# Altium schematic symbol library DynamicComplexModulo_v1i1.SchLib: 58 symbols
Pins are listed as number, name and electrical type; pins without a type are passive.

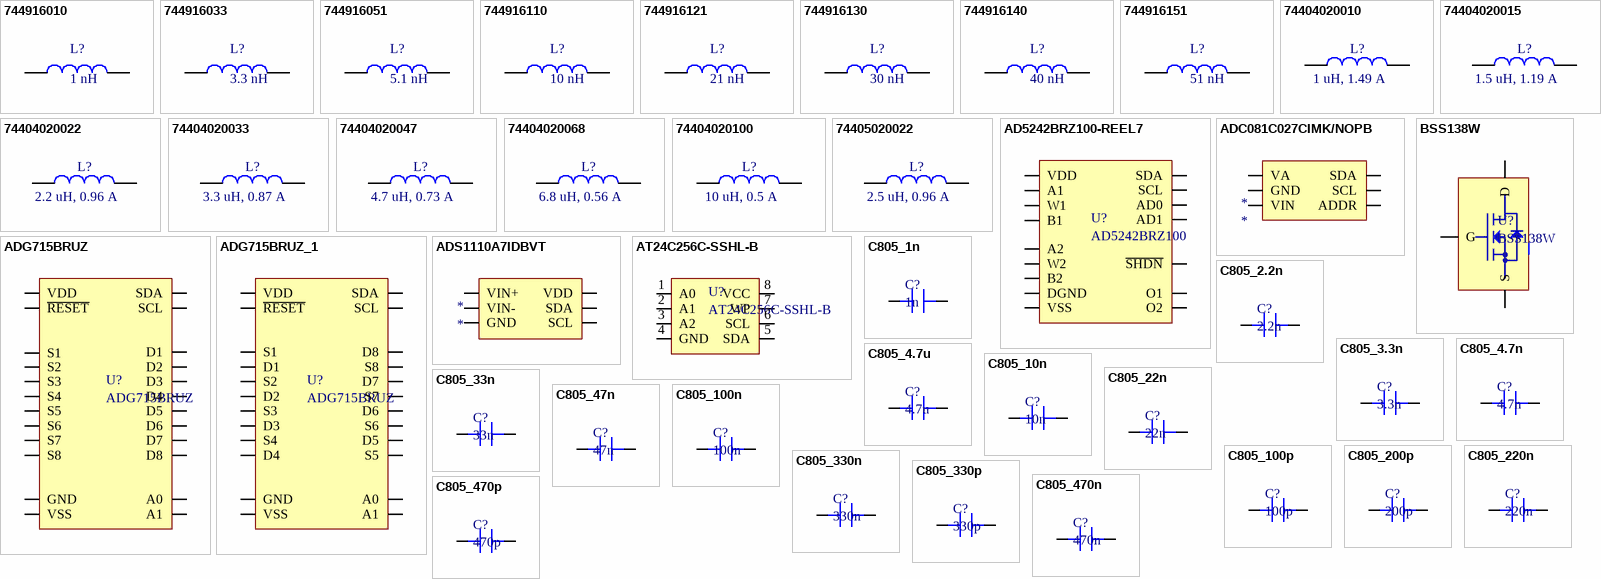
[diagram p0: symbols 744916010 to C805_470p]

## 744916010
designator L?, comment 1 nH
WE-KI HC SMD High Current Wire Wound Ceramic Inductor, size 0402, 1 nH; PartNumber: 744916010; Manufacturer: Wurth Electronics; PublishedDate: Nov. 2016; Publisher: Wurth Elektronik; ComponentLink1Description: Manufacturer; ComponentLink1URL: http://www.we-online.de; ComponentLink2Description: Datasheet; ComponentLink2URL: http://katalog.we-online.de/pbs/datasheet/744916010.pdf; Size: 0402; Value: 1 nH; Supplier 1: Digi-Key; Manufacturer Part Number: 744916010; Stock 1: 9995; Supplier Part Number 1: 732-11213-6-ND; Pricing 1: 1=0.72, 50=0.648, 100=0.6, 1000=0.552 (USD)
footprint WE-KI HC_0402 (SMD Inductor, size 0402)
pins: 1, 2

## 744916033
designator L?, comment 3.3 nH
WE-KI HC SMD High Current Wire Wound Ceramic Inductor, size 0402, 3.3 nH; PartNumber: 744916033; Manufacturer: Wurth Electronics; PublishedDate: Nov. 2016; Publisher: Wurth Elektronik; ComponentLink1Description: Manufacturer; ComponentLink1URL: http://www.we-online.de; ComponentLink2Description: Datasheet; ComponentLink2URL: http://katalog.we-online.de/pbs/datasheet/744916033.pdf; Size: 0402; Value: 3.3 nH; Supplier 1: Digi-Key; Manufacturer Part Number: 744916033; Stock 1: 10000; Supplier Part Number 1: 732-11217-6-ND; Pricing 1: 1=0.72, 50=0.648, 100=0.6, 1000=0.552 (USD)
footprint WE-KI HC_0402
pins: 1, 2

## 744916051
designator L?, comment 5.1 nH
WE-KI HC SMD High Current Wire Wound Ceramic Inductor, size 0402, 5.1 nH; PartNumber: 744916051; Manufacturer: Wurth Electronics; PublishedDate: Nov. 2016; Publisher: Wurth Elektronik; ComponentLink1Description: Manufacturer; ComponentLink1URL: http://www.we-online.de; ComponentLink2Description: Datasheet; ComponentLink2URL: http://katalog.we-online.de/pbs/datasheet/744916051.pdf; Size: 0402; Value: 5.1 nH; Supplier 1: Digi-Key; Manufacturer Part Number: 744916051; Stock 1: 10000; Supplier Part Number 1: 732-11222-6-ND; Pricing 1: 1=0.72, 50=0.648, 100=0.6, 1000=0.552 (USD)
footprint WE-KI HC_0402
pins: 1, 2

## 744916110
designator L?, comment 10 nH
WE-KI HC SMD High Current Wire Wound Ceramic Inductor, size 0402, 10 nH; PartNumber: 744916110; Manufacturer: Wurth Electronics; PublishedDate: Nov. 2016; Publisher: Wurth Elektronik; ComponentLink1Description: Manufacturer; ComponentLink1URL: http://www.we-online.de; ComponentLink2Description: Datasheet; ComponentLink2URL: http://katalog.we-online.de/pbs/datasheet/744916110.pdf; Size: 0402; Value: 10 nH; Supplier 1: Digi-Key; Manufacturer Part Number: 744916110; Stock 1: 9990; Supplier Part Number 1: 732-11230-6-ND; Pricing 1: 1=0.72, 50=0.648, 100=0.6, 1000=0.552 (USD)
footprint WE-KI HC_0402
pins: 1, 2

## 744916121
designator L?, comment 21 nH
WE-KI HC SMD High Current Wire Wound Ceramic Inductor, size 0402, 21 nH; PartNumber: 744916121; Manufacturer: Wurth Electronics; PublishedDate: Nov. 2016; Publisher: Wurth Elektronik; ComponentLink1Description: Manufacturer; ComponentLink1URL: http://www.we-online.de; ComponentLink2Description: Datasheet; ComponentLink2URL: http://katalog.we-online.de/pbs/datasheet/744916121.pdf; Size: 0402; Value: 21 nH; Supplier 1: Digi-Key; Manufacturer Part Number: 744916121; Stock 1: 9990; Supplier Part Number 1: 732-11238-6-ND; Pricing 1: 1=0.72, 50=0.648, 100=0.6, 1000=0.552 (USD)
footprint WE-KI HC_0402
pins: 1, 2

## 744916130
designator L?, comment 30 nH
WE-KI HC SMD High Current Wire Wound Ceramic Inductor, size 0402, 30 nH; PartNumber: 744916130; Manufacturer: Wurth Electronics; PublishedDate: Nov. 2016; Publisher: Wurth Elektronik; ComponentLink1Description: Manufacturer; ComponentLink1URL: http://www.we-online.de; ComponentLink2Description: Datasheet; ComponentLink2URL: http://katalog.we-online.de/pbs/datasheet/744916130.pdf; Size: 0402; Value: 30 nH; Supplier 1: Digi-Key; Manufacturer Part Number: 744916130; Stock 1: 9500; Supplier Part Number 1: 732-11245-6-ND; Pricing 1: 1=0.72, 50=0.648, 100=0.6, 1000=0.552 (USD)
footprint WE-KI HC_0402
pins: 1, 2

## 744916140
designator L?, comment 40 nH
WE-KI HC SMD High Current Wire Wound Ceramic Inductor, size 0402, 40 nH; PartNumber: 744916140; Manufacturer: Wurth Electronics; PublishedDate: Nov. 2016; Publisher: Wurth Elektronik; ComponentLink1Description: Manufacturer; ComponentLink1URL: http://www.we-online.de; ComponentLink2Description: Datasheet; ComponentLink2URL: http://katalog.we-online.de/pbs/datasheet/744916140.pdf; Size: 0402; Value: 40 nH; Supplier 1: Digi-Key; Manufacturer Part Number: 744916140; Stock 1: 9960; Supplier Part Number 1: 732-11250-6-ND; Pricing 1: 1=0.72, 50=0.648, 100=0.6, 1000=0.552 (USD)
footprint WE-KI HC_0402
pins: 1, 2

## 744916151
designator L?, comment 51 nH
WE-KI HC SMD High Current Wire Wound Ceramic Inductor, size 0402, 51 nH; PartNumber: 744916151; Manufacturer: Wurth Electronics; PublishedDate: Nov. 2016; Publisher: Wurth Elektronik; ComponentLink1Description: Manufacturer; ComponentLink1URL: http://www.we-online.de; ComponentLink2Description: Datasheet; ComponentLink2URL: http://katalog.we-online.de/pbs/datasheet/744916151.pdf; Size: 0402; Value: 51 nH; Supplier 1: Digi-Key; Manufacturer Part Number: 744916151; Stock 1: 9980; Supplier Part Number 1: 732-11253-6-ND; Pricing 1: 1=0.72, 50=0.648, 100=0.6, 1000=0.552 (USD)
footprint WE-KI HC_0402
pins: 1, 2

## 74404020010
designator L?, comment 1 uH, 1.49 A
WE-LQS SMD Power Inductor, size 2010, 1 uH, 1.49 A; Part Number: 74404020010; Manufacturer: Wurth Electronics; Rated Current max.: 1.49 A; Inductance: 1 uH; DC Resistance: 0.095 Ohm; ComponentLink1Description: Manufacturer; ComponentLink1URL: http://www.we-online.de; ComponentLink2Description: Datasheet; ComponentLink2URL: http://katalog.we-online.de/pbs/datasheet/74404020010.pdf; Published Date: Dec. 2017; Publisher: Wurth Elektronik; Size: 2010; Operating Temperature: -40 to +125 degC; Supplier 1: Digi-Key; Manufacturer Part Number: 74404020010; Stock 1: 3959; Supplier Part Number 1: 732-10739-6-ND; Pricing 1: 1=0.56, 50=0.4698, 100=0.357, 1000=0.31007 (USD)
footprint WE-LQS_2010 (SMD Power Inductor, 2-Leads, body 2.2x1.8mm)
pins: 1, 2

## 74404020015
designator L?, comment 1.5 uH, 1.19 A
WE-LQS SMD Power Inductor, size 2010, 1.5 uH, 1.19 A; Part Number: 74404020015; Manufacturer: Wurth Electronics; Rated Current max.: 1.19 A; Inductance: 1.5 uH; DC Resistance: 0.145 Ohm; ComponentLink1Description: Manufacturer; ComponentLink1URL: http://www.we-online.de; ComponentLink2Description: Datasheet; ComponentLink2URL: http://katalog.we-online.de/pbs/datasheet/74404020015.pdf; Published Date: Dec. 2017; Publisher: Wurth Elektronik; Size: 2010; Operating Temperature: -40 to +125 degC; Supplier 1: Digi-Key; Manufacturer Part Number: 74404020015; Stock 1: 3931; Supplier Part Number 1: 732-10740-6-ND; Pricing 1: 1=0.56, 50=0.4698, 100=0.357, 1000=0.31007 (USD)
footprint WE-LQS_2010 (SMD Power Inductor, 2-Leads, body 2.2x1.8mm)
pins: 1, 2

## 74404020022
designator L?, comment 2.2 uH, 0.96 A
WE-LQS SMD Power Inductor, size 2010, 2.2 uH, 0.96 A; Part Number: 74404020022; Manufacturer: Wurth Electronics; Rated Current max.: 0.96 A; Inductance: 2.2 uH; DC Resistance: 0.22 Ohm; ComponentLink1Description: Manufacturer; ComponentLink1URL: http://www.we-online.de; ComponentLink2Description: Datasheet; ComponentLink2URL: http://katalog.we-online.de/pbs/datasheet/74404020022.pdf; Published Date: Dec. 2017; Publisher: Wurth Elektronik; Size: 2010; Operating Temperature: -40 to +125 degC; Supplier 1: Digi-Key; Manufacturer Part Number: 74404020022; Stock 1: 3236; Supplier Part Number 1: 732-10741-6-ND; Pricing 1: 1=0.56, 50=0.4698, 100=0.357, 1000=0.31007 (USD)
footprint WE-LQS_2010 (SMD Power Inductor, 2-Leads, body 2.2x1.8mm)
pins: 1, 2

## 74404020033
designator L?, comment 3.3 uH, 0.87 A
WE-LQS SMD Power Inductor, size 2010, 3.3 uH, 0.87 A; Part Number: 74404020033; Manufacturer: Wurth Electronics; Rated Current max.: 0.87 A; Inductance: 3.3 uH; DC Resistance: 0.279 Ohm; ComponentLink1Description: Manufacturer; ComponentLink1URL: http://www.we-online.de; ComponentLink2Description: Datasheet; ComponentLink2URL: http://katalog.we-online.de/pbs/datasheet/74404020033.pdf; Published Date: Dec. 2017; Publisher: Wurth Elektronik; Size: 2010; Operating Temperature: -40 to +125 degC; Supplier 1: Digi-Key; Manufacturer Part Number: 74404020033; Stock 1: 3787; Supplier Part Number 1: 732-10742-6-ND; Pricing 1: 1=0.56, 50=0.4698, 100=0.357, 1000=0.31007 (USD)
footprint WE-LQS_2010 (SMD Power Inductor, 2-Leads, body 2.2x1.8mm)
pins: 1, 2

## 74404020047
designator L?, comment 4.7 uH, 0.73 A
WE-LQS SMD Power Inductor, size 2010, 4.7 uH, 0.73 A; Part Number: 74404020047; Manufacturer: Wurth Electronics; Rated Current max.: 0.73 A; Inductance: 4.7 uH; DC Resistance: 0.399 Ohm; ComponentLink1Description: Manufacturer; ComponentLink1URL: http://www.we-online.de; ComponentLink2Description: Datasheet; ComponentLink2URL: http://katalog.we-online.de/pbs/datasheet/74404020047.pdf; Published Date: Dec. 2017; Publisher: Wurth Elektronik; Size: 2010; Operating Temperature: -40 to +125 degC; Supplier 1: Digi-Key; Manufacturer Part Number: 74404020047; Stock 1: 3398; Supplier Part Number 1: 732-10743-6-ND; Pricing 1: 1=0.56, 50=0.4698, 100=0.357, 1000=0.31007 (USD)
footprint WE-LQS_2010 (SMD Power Inductor, 2-Leads, body 2.2x1.8mm)
pins: 1, 2

## 74404020068
designator L?, comment 6.8 uH, 0.56 A
WE-LQS SMD Power Inductor, size 2010, 6.8 uH, 0.56 A; Part Number: 74404020068; Manufacturer: Wurth Electronics; Rated Current max.: 0.56 A; Inductance: 6.8 uH; DC Resistance: 0.68 Ohm; ComponentLink1Description: Manufacturer; ComponentLink1URL: http://www.we-online.de; ComponentLink2Description: Datasheet; ComponentLink2URL: http://katalog.we-online.de/pbs/datasheet/74404020068.pdf; Published Date: Dec. 2017; Publisher: Wurth Elektronik; Size: 2010; Operating Temperature: -40 to +125 degC; Supplier 1: Digi-Key; Manufacturer Part Number: 74404020068; Stock 1: 3558; Supplier Part Number 1: 732-10744-6-ND; Pricing 1: 1=0.56, 50=0.4698, 100=0.357, 1000=0.31007 (USD)
footprint WE-LQS_2010 (SMD Power Inductor, 2-Leads, body 2.2x1.8mm)
pins: 1, 2

## 74404020100
designator L?, comment 10 uH, 0.5 A
WE-LQS SMD Power Inductor, size 2010, 10 uH, 0.5 A; Part Number: 74404020100; Manufacturer: Wurth Electronics; Rated Current max.: 0.5 A; Inductance: 10 uH; DC Resistance: 0.85 Ohm; ComponentLink1Description: Manufacturer; ComponentLink1URL: http://www.we-online.de; ComponentLink2Description: Datasheet; ComponentLink2URL: http://katalog.we-online.de/pbs/datasheet/74404020100.pdf; Published Date: Dec. 2017; Publisher: Wurth Elektronik; Size: 2010; Operating Temperature: -40 to +125 degC; Supplier 1: Digi-Key; Manufacturer Part Number: 74404020100; Stock 1: 3185; ComponentLink3URL: http://www.farnell.com/datasheets/2277209.pdf; ComponentLink3Description: http://www.farnell.com/datasheets/2277209.pdf; Supplier Part Number 1: 732-10745-6-ND; Pricing 1: 1=0.56, 50=0.4698, 100=0.357, 1000=0.31007 (USD)
footprint WE-LQS_2010 (SMD Power Inductor, 2-Leads, body 2.2x1.8mm)
pins: 1, 2

## 74405020022
designator L?, comment 2.5 uH, 0.96 A
WE-LQS SMD Power Inductor, size 2010, 2.5 uH, 0.96 A; Part Number: 74404020022; Manufacturer: Wurth Electronics; Rated Current max.: 0.96 A; Inductance: 2.2 uH; DC Resistance: 0.22 Ohm; ComponentLink1Description: Manufacturer; ComponentLink1URL: http://www.we-online.de; ComponentLink2Description: Datasheet; ComponentLink2URL: http://katalog.we-online.de/pbs/datasheet/74404020022.pdf; Published Date: Dec. 2017; Publisher: Wurth Elektronik; Size: 2010; Operating Temperature: -40 to +125 degC; Manufacturer Part Number: 74404020022; Supplier 1: Digi-Key; Stock 1: 4000; Supplier Part Number 1: 732-10770-6-ND; Pricing 1: 1=0.63, 50=0.522, 100=0.3967, 1000=0.34451 (USD)
footprint WE-LQS_2010 (SMD Power Inductor, 2-Leads, body 2.2x1.8mm)
pins: 1, 2

## AD5242BRZ100-REEL7
designator U?, comment AD5242BRZ100
IC POT DGTL DUAL 256POS 16SOIC; Manufacturer: Analog Devices; Manufacturer Part Number: AD5242BRZ100-REEL7; Resistance: 100kR; Interface: I2C; Max Supply Voltage: 5.5V; Min Supply Voltage: 2.7V; Min Dual Supply Voltage: 2.3V; Tolerance: 50%; Nominal Supply Current: 100nA; Dual Supply Voltage: 2.5V; Number of Circuits: 2; Number of Taps: 256; Memory Type: Volatile; Temperature Coefficient: 30ppm/°C; Frequency: 400kHz; -3db Bandwidth: 650kHz; Supplier 1: Digi-Key; Stock 1: 881; Mount: Surface Mount; Case/Package: SOIC; Number of Pins: 16; Contact Plating: Tin,Matte; Min Operating Temperature: -40°C; Max Operating Temperature: 105°C; Packaging: Tape and Reel; Max Dual Supply Voltage: 2.7V; Package Quantity: 1000; Taper: Linear; Operating Supply Current: 100nA; Number of Positions: 256; Number of Elements: 2; Max Supply Current: 100nA; Quiescent Current: 100nA; Lead Free: Contains Lead; ComponentLink1URL: https://datasheet.ciiva.com/3046/ad5241-5242-3046354.pdf; ComponentLink1Description: https://datasheet.ciiva.com/3046/ad5241-5242-3046354.pdf; ComponentLink2URL: https://datasheet.ciiva.com/1339/ad5241-5242-1339036.pdf; ComponentLink2Description: https://datasheet.ciiva.com/1339/ad5241-5242-1339036.pdf
footprint AD5242BRZ100
pins: 1 O1, 2 A1, 3 W1, 4 B1, 5 VDD, 6 ~{SHDN}, 7 SCL, 8 SDA, 9 AD0, 10 AD1, 11 DGND, 12 VSS, 13 O2, 14 B2, 15 W2, 16 A2

## ADC081C027CIMK/NOPB
designator *
TEXAS INSTRUMENTS         ADC081C027CIMK/NOPB             Analogue to Digital Converter, SAR, 8 bit, 188.9 kSPS, Single, 2.7 V, 5.5 V, TSOT-23; Manufacturer: TI National Semiconductor; Interface: I2C; Number of Channels: 1; Min Supply Voltage: 2.7V; Max Supply Voltage: 5.5V; Number of Bits: 8; Sampling Rate: 188.9KS/s; Resolution: 8b; Polarity: Unipolar; Integral Nonlinearity (INL): 0.25LSB; Signal to Noise Ratio (SNR): 49.8dB; Nominal Supply Current: 740uA; Full Scale Error: 0.4LSB; Operating Supply Voltage: 5V; Supplier 1: Digi-Key; Manufacturer Part Number: ADC081C027CIMK/NOPB; Stock 1: 17186; Mount: Surface Mount; Case/Package: TSOT; Number of Pins: 6; Contact Plating: Tin; Min Operating Temperature: -40°C; Max Operating Temperature: 105°C; Packaging: Tape and Reel; Package Quantity: 1000; Number of Converters: 1; Number of Elements: 1; Number of Analog Inputs: 1; Number of A/D Converters: 1; Termination: SMD/SMT; Conversion Rate: 188.9KS/s; Supply Type: Single; Differential Nonlinearity: 0.25LSB; Number of Inputs: 1; Radiation Hardening: No; REACH SVHC: No SVHC; Lead Free: Lead Free; ComponentLink1URL: https://datasheet.ciiva.com/3038/adc081c027-3038628.pdf; ComponentLink1Description: https://datasheet.ciiva.com/3038/adc081c027-3038628.pdf; ComponentLink2URL: https://datasheet.ciiva.com/3038/adc081c027-3038629.pdf; ComponentLink2Description: https://datasheet.ciiva.com/3038/adc081c027-3038629.pdf; ComponentLink3URL: https://datasheet.ciiva.com/6659/adc081c021-6659189.pdf; ComponentLink3Description: https://datasheet.ciiva.com/6659/adc081c021-6659189.pdf; ComponentLink4URL: https://datasheet.ciiva.com/7988/1859389-7988887.pdf; ComponentLink4Description: https://datasheet.ciiva.com/7988/1859389-7988887.pdf; ComponentLink5URL: https://datasheet.ciiva.com/6659/adc081c021-6659192.pdf; ComponentLink5Description: https://datasheet.ciiva.com/6659/adc081c021-6659192.pdf; ComponentLink6URL: https://datasheet.ciiva.com/15147/getdatasheetpartid-159036-15147835.pdf; ComponentLink6Description: https://datasheet.ciiva.com/15147/getdatasheetpartid-159036-15147835.pdf; ComponentLink7URL: https://datasheet.ciiva.com/6659/adc081c021-6659196.pdf; ComponentLink7Description: https://datasheet.ciiva.com/6659/adc081c021-6659196.pdf; Supplier Part Number 1: ADC081C027CIMK/NOPBDKR-ND; Pricing 1: 1=1.53, 10=1.37, 100=1.1013, 500=0.90486 (USD)
footprint SOT23-6
pins: 1 VA, 2 GND, 3 VIN, 4 ADDR, 5 SCL, 6 SDA

## ADG715BRUZ
designator U?
ANALOG DEVICES         ADG715BRUZ            Analogue Switch, Octal Channel, SPST, 8 Channels, 4.5 ohm, 2.7V to 5.5V, TSSOP, 24 Pins; Number of Channels: 8; Bandwidth: 155MHz; Drain to Source Resistance: 2.5R; Nominal Supply Current: 20uA; Max Power Dissipation: 125uW; Interface: Serial; Dual Supply Voltage: 2.5V; On-State Resistance: 4.5R; Turn-On Delay Time: 140ns; Turn-Off Delay Time: 130ns; Operating Supply Current: 10uA; High Level Output Current: 30mA; Supply Type: Single,Dual; Max Dual Supply Voltage: 2.75V; Min Dual Supply Voltage: 2.25V; Supplier 1: Digi-Key; Manufacturer: Analog Devices; Manufacturer Part Number: ADG715BRUZ; Stock 1: 3027; Case/Package: TSSOP; Number of Pins: 24; Contact Plating: Tin,Matte; Min Operating Temperature: -40°C; Max Operating Temperature: 85°C; Throw Configuration: SPST; Number of Bits: 8; Min Supply Voltage: 2.7V; Max Supply Voltage: 5.5V; Number of Inputs: 8; Number of Outputs: 8; Package Quantity: 62; Packaging: Rail/Tube; Number of Circuits: 8; -3db Bandwidth: 155MHz; Max Supply Current: 20uA; Power Dissipation: 125uW; Length: 7.8mm; Height: 1.05mm; Width: 4.4mm; Radiation Hardening: No; REACH SVHC: No SVHC; Lead Free: Contains Lead; ComponentLink1URL: https://datasheet.ciiva.com/2978/adg714-715-2978656.pdf; ComponentLink1Description: https://datasheet.ciiva.com/2978/adg714-715-2978656.pdf; ComponentLink2URL: https://datasheet.ciiva.com/1668/adg714-715-1668978.pdf; ComponentLink2Description: https://datasheet.ciiva.com/1668/adg714-715-1668978.pdf; ComponentLink3URL: https://datasheet.ciiva.com/15127/getdatasheetpartid-123058-15127194.pdf; ComponentLink3Description: https://datasheet.ciiva.com/15127/getdatasheetpartid-123058-15127194.pdf; ComponentLink4URL: https://datasheet.ciiva.com/16637/adg714-715-16637994.pdf; ComponentLink4Description: https://datasheet.ciiva.com/16637/adg714-715-16637994.pdf; ComponentLink5URL: https://datasheet.ciiva.com/5797/adg714-715-5797179.pdf; ComponentLink5Description: https://datasheet.ciiva.com/5797/adg714-715-5797179.pdf; ComponentLink6URL: https://datasheet.ciiva.com/48708/001248020-da-01-en-ic-switch-octal-adg715bruz-tssop-24-adi-48708535.pdf; ComponentLink6Description: https://datasheet.ciiva.com/48708/001248020-da-01-en-ic-switch-octal-adg715bruz-tssop-24-adi-48708535.pdf; Supplier Part Number 1: ADG715BRUZ-ND; Pricing 1: 1=6.12, 62=5.19758, 124=4.50452, 558=3.83461, 1054=3.234 (USD)
footprint ADG715BRUZ
pins: 1 SCL, 2 VDD, 3 SDA, 4 GND, 5 S1, 6 D1, 7 S2, 8 D2, 9 S3, 10 D3, 11 S4, 12 D4, 13 D5, 14 S5, 15 D6, 16 S6, 17 D7, 18 S7, 19 D8, 20 S8, 21 VSS, 22 A1, 23 ~{RESET}, 24 A0

## ADG715BRUZ_1
designator U?, comment ADG715BRUZ
ANALOG DEVICES         ADG715BRUZ            Analogue Switch, Octal Channel, SPST, 8 Channels, 4.5 ohm, 2.7V to 5.5V, TSSOP, 24 Pins; Number of Channels: 8; Bandwidth: 155MHz; Drain to Source Resistance: 2.5R; Nominal Supply Current: 20uA; Max Power Dissipation: 125uW; Interface: Serial; Dual Supply Voltage: 2.5V; On-State Resistance: 4.5R; Turn-On Delay Time: 140ns; Turn-Off Delay Time: 130ns; Operating Supply Current: 10uA; High Level Output Current: 30mA; Supply Type: Single,Dual; Max Dual Supply Voltage: 2.75V; Min Dual Supply Voltage: 2.25V; Supplier 1: Digi-Key; Manufacturer: Analog Devices; Manufacturer Part Number: ADG715BRUZ; Stock 1: 3027; Case/Package: TSSOP; Number of Pins: 24; Contact Plating: Tin,Matte; Min Operating Temperature: -40°C; Max Operating Temperature: 85°C; Throw Configuration: SPST; Number of Bits: 8; Min Supply Voltage: 2.7V; Max Supply Voltage: 5.5V; Number of Inputs: 8; Number of Outputs: 8; Package Quantity: 62; Packaging: Rail/Tube; Number of Circuits: 8; -3db Bandwidth: 155MHz; Max Supply Current: 20uA; Power Dissipation: 125uW; Length: 7.8mm; Height: 1.05mm; Width: 4.4mm; Radiation Hardening: No; REACH SVHC: No SVHC; Lead Free: Contains Lead; ComponentLink1URL: https://datasheet.ciiva.com/2978/adg714-715-2978656.pdf; ComponentLink1Description: https://datasheet.ciiva.com/2978/adg714-715-2978656.pdf; ComponentLink2URL: https://datasheet.ciiva.com/1668/adg714-715-1668978.pdf; ComponentLink2Description: https://datasheet.ciiva.com/1668/adg714-715-1668978.pdf; ComponentLink3URL: https://datasheet.ciiva.com/15127/getdatasheetpartid-123058-15127194.pdf; ComponentLink3Description: https://datasheet.ciiva.com/15127/getdatasheetpartid-123058-15127194.pdf; ComponentLink4URL: https://datasheet.ciiva.com/16637/adg714-715-16637994.pdf; ComponentLink4Description: https://datasheet.ciiva.com/16637/adg714-715-16637994.pdf; ComponentLink5URL: https://datasheet.ciiva.com/5797/adg714-715-5797179.pdf; ComponentLink5Description: https://datasheet.ciiva.com/5797/adg714-715-5797179.pdf; ComponentLink6URL: https://datasheet.ciiva.com/48708/001248020-da-01-en-ic-switch-octal-adg715bruz-tssop-24-adi-48708535.pdf; ComponentLink6Description: https://datasheet.ciiva.com/48708/001248020-da-01-en-ic-switch-octal-adg715bruz-tssop-24-adi-48708535.pdf; Supplier Part Number 1: ADG715BRUZ-ND; Pricing 1: 1=6.12, 62=5.19758, 124=4.50452, 558=3.83461, 1054=3.234 (USD)
footprint ADG715BRUZ
pins: 1 SCL, 2 VDD, 3 SDA, 4 GND, 5 S1, 6 D1, 7 S2, 8 D2, 9 S3, 10 D3, 11 S4, 12 D4, 13 D5, 14 S5, 15 D6, 16 S6, 17 D7, 18 S7, 19 D8, 20 S8, 21 VSS, 22 A1, 23 ~{RESET}, 24 A0

## ADS1110A7IDBVT
designator *
IC ADC 16-BIT I2C PROGBL SOT23-6; Manufacturer: Texas Instruments; Manufacturer Part Number: ADS1110A7IDBVT; Number of Channels: 1; Max Power Dissipation: 1.75mW; Operating Supply Voltage: 5V; Min Supply Voltage: 2.7V; Max Supply Voltage: 5.5V; Resolution: 16b; Number of Bits: 16; Sampling Rate: 0.128KS/s; Polarity: Bipolar,Unipolar; Supply Type: Single; Conversion Rate: 128S/s; Nominal Supply Current: 240uA; Differential Nonlinearity: 1LSB; Supplier 1: Digi-Key; Stock 1: 469; Mount: Surface Mount; Case/Package: SOT-23-6; Number of Pins: 6; Contact Plating: Gold; Min Operating Temperature: -40°C; Max Operating Temperature: 125°C; Interface: I2C; Package Quantity: 250; Packaging: Tape and Reel; Number of Converters: 1; Number of Elements: 1; Power Dissipation: 1.75mW; Number of A/D Converters: 1; Number of Analog Inputs: 1; Number of Inputs: 1; Radiation Hardening: No; Lead Free: Lead Free; ComponentLink1URL: https://datasheet.ciiva.com/25993/ads1110-25993414.pdf; ComponentLink1Description: https://datasheet.ciiva.com/25993/ads1110-25993414.pdf; ComponentLink2URL: https://datasheet.ciiva.com/1262/ads1110-1262313.pdf; ComponentLink2Description: https://datasheet.ciiva.com/1262/ads1110-1262313.pdf; ComponentLink3URL: https://datasheet.ciiva.com/1262/ads1110-1262314.pdf; ComponentLink3Description: https://datasheet.ciiva.com/1262/ads1110-1262314.pdf; ComponentLink4URL: https://datasheet.ciiva.com/1262/ads1110-1262315.pdf; ComponentLink4Description: https://datasheet.ciiva.com/1262/ads1110-1262315.pdf; ComponentLink5URL: https://datasheet.ciiva.com/14260/sbas276a-14260046.pdf; ComponentLink5Description: https://datasheet.ciiva.com/14260/sbas276a-14260046.pdf; ComponentLink6URL: https://datasheet.ciiva.com/26800/ads1110a7idbvt-26800806.pdf; ComponentLink6Description: https://datasheet.ciiva.com/26800/ads1110a7idbvt-26800806.pdf; ComponentLink7URL: https://datasheet.ciiva.com/41461/001186690-da-01-en-ic-adc-16-bi-ads1110a7idbvt-sot-23-6-tid-41461014.pdf; ComponentLink7Description: https://datasheet.ciiva.com/41461/001186690-da-01-en-ic-adc-16-bi-ads1110a7idbvt-sot-23-6-tid-41461014.pdf; Supplier Part Number 1: 296-14468-6-ND; Pricing 1: 1=6.46, 10=5.805, 100=4.7561 (USD)
footprint SOT23-6
pins: 1 VIN+, 2 GND, 3 SCL, 4 SDA, 5 VDD, 6 VIN-

## AT24C256C-SSHL-B
designator U?
ATMEL         AT24C256C-SSHL-B            EEPROM, 256 Kbit, 32K x 8bit, 1 MHz, Serial, SOIC, 8 Pins; Manufacturer: Microchip / Atmel; Interface: I2C,Serial,2-Wire; Min Supply Voltage: 1.7V; Max Supply Voltage: 5.5V; Access Time: 550ns; Number of Words: 32768; Density: 256Kb; Frequency: 1MHz; Nominal Supply Current: 3mA; Voltage: 5V; Supplier 1: Digi-Key; Manufacturer Part Number: AT24C256C-SSHL-B; Stock 1: 4655; Mount: Surface Mount; Case/Package: SOIC; Number of Pins: 8; Contact Plating: Tin,Matte; Min Operating Temperature: -40°C; Max Operating Temperature: 85°C; Packaging: Bulk; Package Quantity: 100; Memory Type: EEPROM; Memory Size: 256Kb; Max Frequency: 1MHz; Length: 5.05mm; Height: 1.5mm; Width: 3.99mm; Radiation Hardening: No; REACH SVHC: No SVHC; ComponentLink1URL: https://datasheet.ciiva.com/15123/getdatasheetpartid-367456-15123424.pdf; ComponentLink1Description: https://datasheet.ciiva.com/15123/getdatasheetpartid-367456-15123424.pdf; ComponentLink2URL: https://datasheet.ciiva.com/15123/getdatasheetpartid-304516-15123348.pdf; ComponentLink2Description: https://datasheet.ciiva.com/15123/getdatasheetpartid-304516-15123348.pdf; ComponentLink3URL: https://datasheet.ciiva.com/1910/atmel-8568-seeprom-at24c256c-datasheet-1910422.pdf; ComponentLink3Description: https://datasheet.ciiva.com/1910/atmel-8568-seeprom-at24c256c-datasheet-1910422.pdf; ComponentLink4URL: https://datasheet.ciiva.com/1509/1726561-1509879.pdf; ComponentLink4Description: https://datasheet.ciiva.com/1509/1726561-1509879.pdf; Supplier Part Number 1: AT24C256C-SSHL-B-ND; Pricing 1: 1=0.68, 10=0.619, 25=0.6108, 100=0.543 (USD)
footprint AT24C256C-SSHL-B
pins: 1 A0, 2 A1, 3 A2, 4 GND, 5 SDA, 6 SCL, 7 WP, 8 VCC

## BSS138W
designator U?
MOSFET 50V N-CH Logic Level; Manufacturer: Fairchild Semiconductor; Channel Type: N-Channel; Drain-Source On Resistance-Max: 3.5 O; Qg Gate Charge: 1.1 nC; Rated Power Dissipation: 340 mW; Supplier 1: Digi-Key; Manufacturer Part Number: BSS138W; Stock 1: 55420; Drain-to-Source Voltage [Vdss]: 50 V; ComponentLink1URL: https://datasheet.ciiva.com/17170/bss138w-17170739.pdf; ComponentLink1Description: https://datasheet.ciiva.com/17170/bss138w-17170739.pdf; ComponentLink2URL: https://datasheet.ciiva.com/8115/bss138w-8115367.pdf; ComponentLink2Description: https://datasheet.ciiva.com/8115/bss138w-8115367.pdf; ComponentLink3URL: https://datasheet.ciiva.com/15043/bss138w-15043927.pdf; ComponentLink3Description: https://datasheet.ciiva.com/15043/bss138w-15043927.pdf; ComponentLink4URL: https://datasheet.ciiva.com/15043/bss138w-15043928.pdf; ComponentLink4Description: https://datasheet.ciiva.com/15043/bss138w-15043928.pdf; ComponentLink5URL: https://datasheet.ciiva.com/15043/bss138w-15043929.pdf; ComponentLink5Description: https://datasheet.ciiva.com/15043/bss138w-15043929.pdf; ComponentLink6URL: https://datasheet.ciiva.com/8115/bss138w-8115370.pdf; ComponentLink6Description: https://datasheet.ciiva.com/8115/bss138w-8115370.pdf; ComponentLink7URL: https://datasheet.ciiva.com/26146/bss138w-26146843.pdf; ComponentLink7Description: https://datasheet.ciiva.com/26146/bss138w-26146843.pdf; ComponentLink8URL: https://datasheet.ciiva.com/13042/bss138w-91619-13042909.pdf; ComponentLink8Description: https://datasheet.ciiva.com/13042/bss138w-91619-13042909.pdf; Supplier Part Number 1: BSS138WCT-ND
footprint SOT-323
pins: 1 G, 2 S, 3 D

## C805_1n
designator C?, comment 1n
footprint C0805
pins: 1, 2

## C805_2.2n
designator C?, comment 2.2n
footprint C0805
pins: 1, 2

## C805_3.3n
designator C?, comment 3.3n
footprint C0805
pins: 1, 2

## C805_4.7n
designator C?, comment 4.7n
footprint C0805
pins: 1, 2

## C805_4.7u
designator C?, comment 4.7u
footprint C0805
pins: 1, 2

## C805_10n
designator C?, comment 10n
footprint C0805
pins: 1, 2

## C805_22n
designator C?, comment 22n
footprint C0805
pins: 1, 2

## C805_33n
designator C?, comment 33n
footprint C0805
pins: 1, 2

## C805_47n
designator C?, comment 47n
footprint C0805
pins: 1, 2

## C805_100n
designator C?, comment 100n
footprint C0805
pins: 1, 2

## C805_100p
designator C?, comment 100p
footprint C0805
pins: 1, 2

## C805_200p
designator C?, comment 200p
footprint C0805
pins: 1, 2

## C805_220n
designator C?, comment 220n
footprint C0805
pins: 1, 2

## C805_330n
designator C?, comment 330n
footprint C0805
pins: 1, 2

## C805_330p
designator C?, comment 330p
footprint C0805
pins: 1, 2

## C805_470n
designator C?, comment 470n
footprint C0805
pins: 1, 2

## C805_470p
designator C?, comment 470p
footprint C0805
pins: 1, 2

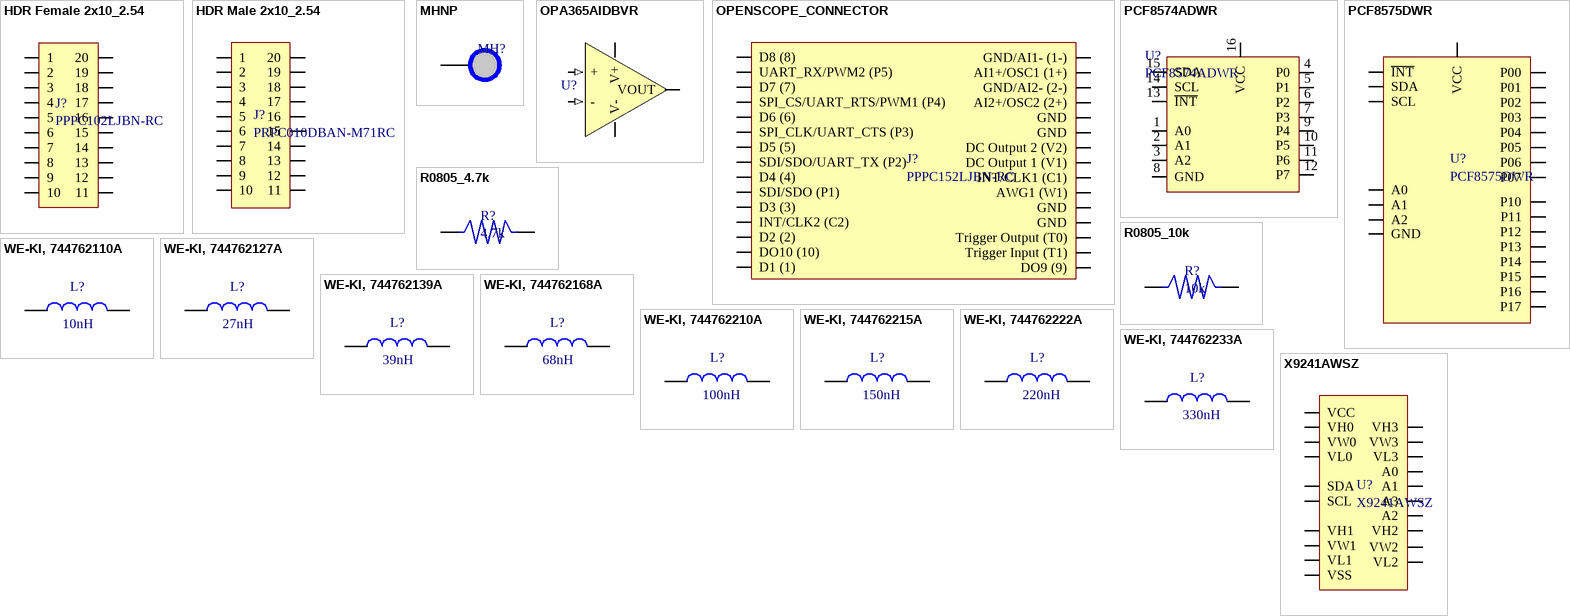
[diagram p1: symbols HDR Female 2x10_2.54 to X9241AWSZ]

## HDR Female 2x10_2.54
designator J?, comment PPPC102LJBN-RC
CONN FMALE 20POS DL .1" R/A GOLD; Manufacturer: Sullins; Number of Positions: 20; Connector Type: Socket,Header; Pitch: 0.1inch; Supplier 1: Digi-Key; Manufacturer Part Number: PPPC102LJBN-RC; Stock 1: 12126; Mount: Through Hole; Colour: Black; Contact Plating: Gold; Contact Material: Bronze; Housing Colour: Black; Housing Material: Plastic; Package Quantity: 1000; Number of Rows: 2; Packaging: Bulk; Termination: Solder; Length: 25.9mm; Height: 5mm; Row Spacing: 0.1inch; Width: 8.5mm; Lead Free: Lead Free; ComponentLink1URL: http://www.sullinscorp.com/images/10494.pdf; ComponentLink1Description: http://www.sullinscorp.com/images/10494.pdf; ComponentLink2URL: http://sullinscorp.com/drawings/101_P(N)PxCxx2LJBN-RC,_10494-H.pdf; ComponentLink2Description: http://sullinscorp.com/drawings/101_P(N)PxCxx2LJBN-RC,_10494-H.pdf; Supplier Part Number 1: S5563-ND
footprint HDR_FEMALE_10x2x2.54 (PPPC102LJBN-RC)
pins: 1, 2, 3, 4, 5, 6, 7, 8, 9, 10, 11, 12, 13, 14, 15, 16, 17, 18, 19, 20

## HDR Male 2x10_2.54
designator J?, comment PRPC010DBAN-M71RC
20 Positions Header, Unshrouded, Breakaway Connector 0.100" (2.54mm) Through Hole, Right Angle Gold; Manufacturer: Sullins; Number of Positions: 20; Connector Type: Male Pin; Pitch: 0.1inch; Supplier 1: Digi-Key; Manufacturer Part Number: PRPC010DBAN-M71RC; Stock 1: 459; Mount: Through Hole; Colour: Black; Contact Plating: Gold; Package Quantity: 1; Number of Rows: 2; Packaging: Bulk; Termination: Solder; Row Spacing: 0.1inch; Contact Mating Length: 0.23inch; ComponentLink1URL: https://datasheet.ciiva.com/741/xrxczzzdxxn-m71rc-11639-b-741675.pdf; ComponentLink1Description: https://datasheet.ciiva.com/741/xrxczzzdxxn-m71rc-11639-b-741675.pdf; Supplier Part Number 1: S2111EC-10-ND; Pricing 1: 1=1.08, 10=0.97, 100=0.7989, 500=0.6315, 1000=0.5421, 5000=0.49455, 10000=0.47553 (USD)
footprint HDR_MALE_10x2x2.54 (PRPC010DBAN-M71RC)
pins: 1, 2, 3, 4, 5, 6, 7, 8, 9, 10, 11, 12, 13, 14, 15, 16, 17, 18, 19, 20

## MHNP
designator MH?, comment MH 3.2mm NP  (value not drawn)  (no BOM)
Mounting hole 3.2mm non plated
footprint MH3.2mm (MHNP 3.2mm)
pins: 1

## OPA365AIDBVR
designator U?, comment 296-20645-1-ND  (value not drawn)
IC OPAMP GP 50MHZ RRO SOT23-5; Manufacturer: Texas Instruments; Manufacturer Part Number: OPA365AIDBVR; Max Supply Voltage: 5.5V; Min Supply Voltage: 2.2V; Output Current: 65mA; Nominal Supply Current: 5mA; Voltage Gain: 120dB; Common Mode Rejection Ratio: 100dB; Number of Channels: 1; Slew Rate: 25V/µs; Max I/O Voltage: 200uV; Input Bias Current: 10pA; Operating Supply Current: 4.6mA; Supplier 1: Digi-Key; Stock 1: 2628; Case/Package: SOT-23; Number of Pins: 5; Contact Plating: Gold; Min Operating Temperature: -40°C; Max Operating Temperature: 125°C; Unity Gain Bandwidth Product: 50MHz; Bandwidth: 50MHz; Package Quantity: 1; Number of Circuits: 1; Gain Bandwidth Product: 50MHz; Input Offset Voltage (Vos): 200uV; Output Current per Channel: 65mA; Packaging: Tape and Reel; Number of Elements: 1; Power Supply Rejection Ratio (PSRR): 100dB; Number of Amplifiers: 1; Radiation Hardening: No; REACH SVHC: No SVHC; Lead Free: Lead Free; ComponentLink1URL: https://datasheet.ciiva.com/1813/opa365-1813318.pdf; ComponentLink1Description: https://datasheet.ciiva.com/1813/opa365-1813318.pdf; ComponentLink2URL: https://datasheet.ciiva.com/1813/opa365-1813319.pdf; ComponentLink2Description: https://datasheet.ciiva.com/1813/opa365-1813319.pdf; ComponentLink3URL: https://datasheet.ciiva.com/1813/opa365-1813320.pdf; ComponentLink3Description: https://datasheet.ciiva.com/1813/opa365-1813320.pdf; ComponentLink4URL: https://datasheet.ciiva.com/26265/opa365-26265449.pdf; ComponentLink4Description: https://datasheet.ciiva.com/26265/opa365-26265449.pdf; ComponentLink5URL: https://datasheet.ciiva.com/46439/1767212-46439482.pdf; ComponentLink5Description: https://datasheet.ciiva.com/46439/1767212-46439482.pdf; ComponentLink6URL: https://datasheet.ciiva.com/46439/1863677-46439483.pdf; ComponentLink6Description: https://datasheet.ciiva.com/46439/1863677-46439483.pdf; ComponentLink7URL: https://datasheet.ciiva.com/7148/1863677-7148926.pdf; ComponentLink7Description: https://datasheet.ciiva.com/7148/1863677-7148926.pdf; ComponentLink8URL: https://datasheet.ciiva.com/14347/opa365-14347951.pdf; ComponentLink8Description: https://datasheet.ciiva.com/14347/opa365-14347951.pdf; Supplier Part Number 1: 296-20645-6-ND; Pricing 1: 1=1.74, 10=1.561, 100=1.2549, 500=1.03104, 1000=0.85428 (USD)
footprint SOT23-5
pins: 1 VOUT, 2 V-, 3 + (in), 4 - (in), 5 V+

## OPENSCOPE_CONNECTOR
designator J?, comment PPPC152LJBN-RC
CONN FMALE 30POS DL .1" R/A GOLD; Manufacturer: Sullins; Number of Positions: 30; Connector Type: Socket,Header; Pitch: 0.1inch; Supplier 1: Digi-Key; Manufacturer Part Number: PPPC152LJBN-RC; Stock 1: 2029; Mount: Through Hole; Colour: Black; Contact Plating: Gold; Contact Material: Bronze; Housing Colour: Black; Housing Material: Plastic; Package Quantity: 1000; Number of Rows: 2; Packaging: Bulk; Termination: Solder; Length: 38.6mm; Height: 5mm; Row Spacing: 0.1inch; Width: 8.5mm; Lead Free: Lead Free; ComponentLink1URL: http://sullinscorp.com/drawings/101_P(N)PxCxx2LJBN-RC,_10494-H.pdf; ComponentLink1Description: http://sullinscorp.com/drawings/101_P(N)PxCxx2LJBN-RC,_10494-H.pdf; Supplier Part Number 1: S5568-ND; Pricing 1: 1=2.22, 10=2.018, 100=1.7294, 500=1.44112, 1000=1.23525, 5000=1.1895 (USD)
footprint HDR_FEMALE_15x2x2.54
pins: 1 D8 (8), 2 UART_RX/PWM2 (P5), 3 D7 (7), 4 SPI_CS/UART_RTS/PWM1 (P4), 5 D6 (6), 6 SPI_CLK/UART_CTS (P3), 7 D5 (5), 8 SDI/SDO/UART_TX (P2), 9 D4 (4), 10 SDI/SDO (P1), 11 D3 (3), 12 INT/CLK2 (C2), 13 D2 (2), 14 DO10 (10), 15 D1 (1), 16 DO9 (9), 17 Trigger Input (T1), 18 Trigger Output (T0), 19 GND, 20 GND, 21 AWG1 (W1), 22 INT/CLK1 (C1), 23 DC Output 1 (V1), 24 DC Output 2 (V2), 25 GND, 26 GND, 27 AI2+/OSC2 (2+), 28 GND/AI2- (2-), 29 AI1+/OSC1 (1+), 30 GND/AI1- (1-)

## PCF8574ADWR
designator U?
IC I/O EXPANDER I2C 8B 16SOIC; Manufacturer: Texas Instruments; Min Supply Voltage: 2.5V; Max Supply Voltage: 6V; Number of I/Os: 8; Frequency: 100kHz; Supplier 1: Digi-Key; Manufacturer Part Number: PCF8574ADWR; Stock 1: 6406; Case/Package: SOIC; Number of Pins: 16; Weight: 0.014829oz; Contact Plating: Gold; Min Operating Temperature: -40°C; Max Operating Temperature: 85°C; Package Quantity: 1; Packaging: Tape and Reel; Termination: SMD/SMT; Max Frequency: 100kHz; Number of Outputs: 8; Number of Bits: 8; REACH SVHC: No SVHC; Lead Free: Lead Free; ComponentLink1URL: https://datasheet.ciiva.com/1780/pcf8574a-1780193.pdf; ComponentLink1Description: https://datasheet.ciiva.com/1780/pcf8574a-1780193.pdf; ComponentLink2URL: https://datasheet.ciiva.com/1780/pcf8574a-1780194.pdf; ComponentLink2Description: https://datasheet.ciiva.com/1780/pcf8574a-1780194.pdf; ComponentLink3URL: https://datasheet.ciiva.com/1780/pcf8574a-1780195.pdf; ComponentLink3Description: https://datasheet.ciiva.com/1780/pcf8574a-1780195.pdf; ComponentLink4URL: https://datasheet.ciiva.com/3149/pcf8574a-3149367.pdf; ComponentLink4Description: https://datasheet.ciiva.com/3149/pcf8574a-3149367.pdf; ComponentLink5URL: https://datasheet.ciiva.com/46411/1768199-46411463.pdf; ComponentLink5Description: https://datasheet.ciiva.com/46411/1768199-46411463.pdf; ComponentLink6URL: https://datasheet.ciiva.com/3148/pcf8574a-3148520.pdf; ComponentLink6Description: https://datasheet.ciiva.com/3148/pcf8574a-3148520.pdf; Supplier Part Number 1: 296-13105-6-ND; Pricing 1: 1=1.32, 10=1.176, 100=0.9168, 500=0.75736, 1000=0.59792 (USD)
footprint PCF8574A
pins: 1 A0, 2 A1, 3 A2, 4 P0, 5 P1, 6 P2, 7 P3, 8 GND, 9 P4, 10 P5, 11 P6, 12 P7, 13 ~{INT}, 14 SCL, 15 SDA, 16 VCC

## PCF8575DWR
designator U?
IC I/O EXPANDER I2C 16B 24SOIC; Manufacturer: Texas Instruments; Number of I/Os: 16; Frequency: 400kHz; Operating Supply Voltage: 5.5V; Supplier 1: Digi-Key; Manufacturer Part Number: PCF8575DWR; Stock 1: 4778; Case/Package: SOIC; Number of Pins: 24; Weight: 0.022025oz; Contact Plating: Gold; Min Operating Temperature: -40°C; Max Operating Temperature: 85°C; Packaging: Tape and Reel; Package Quantity: 2000; Max Frequency: 400kHz; Number of Outputs: 16; Lead Free: Lead Free; ComponentLink1URL: https://datasheet.ciiva.com/14194/pcf8575-14194981.pdf; ComponentLink1Description: https://datasheet.ciiva.com/14194/pcf8575-14194981.pdf; ComponentLink2URL: https://datasheet.ciiva.com/26238/pcf8575-26238117.pdf; ComponentLink2Description: https://datasheet.ciiva.com/26238/pcf8575-26238117.pdf; ComponentLink3URL: https://datasheet.ciiva.com/1780/pcf8575-1780406.pdf; ComponentLink3Description: https://datasheet.ciiva.com/1780/pcf8575-1780406.pdf; ComponentLink4URL: https://datasheet.ciiva.com/1780/pcf8575-1780407.pdf; ComponentLink4Description: https://datasheet.ciiva.com/1780/pcf8575-1780407.pdf; ComponentLink5URL: https://datasheet.ciiva.com/1780/pcf8575-1780408.pdf; ComponentLink5Description: https://datasheet.ciiva.com/1780/pcf8575-1780408.pdf; ComponentLink6URL: https://datasheet.ciiva.com/41460/001187851-da-01-en-ic-i-o-expander-i-pcf8575dwr-soic-24-tid-41460663.pdf; ComponentLink6Description: https://datasheet.ciiva.com/41460/001187851-da-01-en-ic-i-o-expander-i-pcf8575dwr-soic-24-tid-41460663.pdf; Supplier Part Number 1: 296-20981-6-ND; Pricing 1: 1=2.45, 10=2.203, 100=1.7705, 500=1.45462, 1000=1.20525 (USD)
footprint PCF8575DWR
pins: 1 ~{INT}, 2 A1, 3 A2, 4 P00, 5 P01, 6 P02, 7 P03, 8 P04, 9 P05, 10 P06, 11 P07, 12 GND, 13 P10, 14 P11, 15 P12, 16 P13, 17 P14, 18 P15, 19 P16, 20 P17, 21 A0, 22 SCL, 23 SDA, 24 VCC

## R0805_4.7k
designator R?, comment 4.7k
footprint R0805
pins: 1, 2

## R0805_10k
designator R?, comment 10k
footprint R0805
pins: 1, 2

## WE-KI, 744762110A
designator L?  value 10nH
WE-KI SMD Wire Wound Ceramic Inductor, size 1008A, 10nH; PartNumber: 744762110A; PublishedDate: Sep. 2016; Publisher: Wurth Elektronik; ComponentLink1Description: Manufacturer; ComponentLink1URL: http://www.we-online.de; ComponentLink2Description: Datasheet; ComponentLink2URL: http://katalog.we-online.de/pbs/datasheet/744762110A.pdf; Size: 1008A; Supplier 1: Digi-Key; Supplier Part Number 1: 732-1808-6-ND
footprint WE-KI_1008A (SMD Wire Wound Ceramic Inductor, body 2.5x2)
pins: 1, 2

## WE-KI, 744762127A
designator L?  value 27nH
WE-KI SMD Wire Wound Ceramic Inductor, size 1008A, 27nH; PartNumber: 744762127A; PublishedDate: Sep. 2016; Publisher: Wurth Elektronik; ComponentLink1Description: Manufacturer; ComponentLink1URL: http://www.we-online.de; ComponentLink2Description: Datasheet; ComponentLink2URL: http://katalog.we-online.de/pbs/datasheet/744762127A.pdf; Size: 1008A; Supplier 1: Digi-Key; Supplier Part Number 1: 732-1813-6-ND
footprint WE-KI_1008A
pins: 1, 2

## WE-KI, 744762139A
designator L?  value 39nH
WE-KI SMD Wire Wound Ceramic Inductor, size 1008A, 39nH; PartNumber: 744762139A; PublishedDate: Sep. 2016; Publisher: Wurth Elektronik; ComponentLink1Description: Manufacturer; ComponentLink1URL: http://www.we-online.de; ComponentLink2Description: Datasheet; ComponentLink2URL: http://katalog.we-online.de/pbs/datasheet/744762139A.pdf; Size: 1008A; Supplier 1: Digi-Key; Supplier Part Number 1: 732-1815-6-ND
footprint WE-KI_1008A
pins: 1, 2

## WE-KI, 744762168A
designator L?  value 68nH
WE-KI SMD Wire Wound Ceramic Inductor, size 1008A, 68nH; PartNumber: 744762168A; PublishedDate: Sep. 2016; Publisher: Wurth Elektronik; ComponentLink1Description: Manufacturer; ComponentLink1URL: http://www.we-online.de; ComponentLink2Description: Datasheet; ComponentLink2URL: http://katalog.we-online.de/pbs/datasheet/744762168A.pdf; Size: 1008A; Supplier 1: Digi-Key; Supplier Part Number 1: 732-1818-6-ND
footprint WE-KI_1008A
pins: 1, 2

## WE-KI, 744762210A
designator L?  value 100nH
WE-KI SMD Wire Wound Ceramic Inductor, size 1008A, 100nH; PartNumber: 744762210A; PublishedDate: Sep. 2016; Publisher: Wurth Elektronik; ComponentLink1Description: Manufacturer; ComponentLink1URL: http://www.we-online.de; ComponentLink2Description: Datasheet; ComponentLink2URL: http://katalog.we-online.de/pbs/datasheet/744762210A.pdf; Size: 1008A; Supplier 1: Digi-Key; Supplier Part Number 1: 732-1820-6-ND
footprint WE-KI_1008A
pins: 1, 2

## WE-KI, 744762215A
designator L?  value 150nH
WE-KI SMD Wire Wound Ceramic Inductor, size 1008A, 150nH; PartNumber: 744762215A; PublishedDate: Sep. 2016; Publisher: Wurth Elektronik; ComponentLink1Description: Manufacturer; ComponentLink1URL: http://www.we-online.de; ComponentLink2Description: Datasheet; ComponentLink2URL: http://katalog.we-online.de/pbs/datasheet/744762215A.pdf; Size: 1008A; Supplier 1: Digi-Key; Supplier Part Number 1: 732-1822-6-ND
footprint WE-KI_1008A
pins: 1, 2

## WE-KI, 744762222A
designator L?  value 220nH
WE-KI SMD Wire Wound Ceramic Inductor, size 1008A, 220nH; PartNumber: 744762222A; PublishedDate: Sep. 2016; Publisher: Wurth Elektronik; ComponentLink1Description: Manufacturer; ComponentLink1URL: http://www.we-online.de; ComponentLink2Description: Datasheet; ComponentLink2URL: http://katalog.we-online.de/pbs/datasheet/744762222A.pdf; Size: 1008A; Supplier 1: Digi-Key; Supplier Part Number 1: 732-1824-6-ND
footprint WE-KI_1008A
pins: 1, 2

## WE-KI, 744762233A
designator L?  value 330nH
WE-KI SMD Wire Wound Ceramic Inductor, size 1008A, 330nH; PartNumber: 744762233A; PublishedDate: Sep. 2016; Publisher: Wurth Elektronik; ComponentLink1Description: Manufacturer; ComponentLink1URL: http://www.we-online.de; ComponentLink2Description: Datasheet; ComponentLink2URL: http://katalog.we-online.de/pbs/datasheet/744762233A.pdf; Size: 1008A; Supplier 1: Digi-Key; Supplier Part Number 1: 732-1826-6-ND
footprint WE-KI_1008A
pins: 1, 2

## X9241AWSZ
designator U?
INTERSIL         X9241AWSZ             Non Volatile Digital Potentiometer, 10 kohm, Quad, Serial, Linear,  20%, 4.5 V; Min Supply Voltage: 4.5V; Max Supply Voltage: 5.5V; Resistance: 10kR; Operating Supply Voltage: 5V; Interface: I2C; Operating Supply Current: 3mA; Number of Circuits: 4; Number of Taps: 64; Memory Type: Non-Volatile; Temperature Coefficient: 300ppm/°C; Frequency: 100kHz; Supplier 1: Digi-Key; Manufacturer: Intersil; Manufacturer Part Number: X9241AWSZ; Stock 1: 284; Mount: Surface Mount; Case/Package: SOIC; Number of Pins: 20; Min Operating Temperature: 0°C; Max Operating Temperature: 70°C; Tolerance: 20%; Packaging: Rail/Tube; Package Quantity: 35; Taper: Linear; Number of Positions: 64; Length: 12.8mm; Height: 2.34mm; Width: 7.49mm; Radiation Hardening: No; REACH SVHC: No SVHC; Lead Free: Lead Free; ComponentLink1URL: https://datasheet.ciiva.com/1144/31997-1144832.pdf; ComponentLink1Description: https://datasheet.ciiva.com/1144/31997-1144832.pdf; ComponentLink2URL: https://datasheet.ciiva.com/1346/fn8164-1346653.pdf; ComponentLink2Description: https://datasheet.ciiva.com/1346/fn8164-1346653.pdf; ComponentLink3URL: https://datasheet.ciiva.com/8188/fn8164-8188303.pdf; ComponentLink3Description: https://datasheet.ciiva.com/8188/fn8164-8188303.pdf; ComponentLink4URL: https://datasheet.ciiva.com/26801/x9241awsz-26801924.pdf; ComponentLink4Description: https://datasheet.ciiva.com/26801/x9241awsz-26801924.pdf; Supplier Part Number 1: X9241AWSZ-ND; Pricing 1: 1=9.14, 10=8.256, 100=6.8352, 500=5.952, 1000=5.184 (USD)
footprint X9241AWSZ
pins: 1 VW0, 2 VL0, 3 VH0, 4 A0, 5 A2, 6 VW1, 7 VL1, 8 VH1, 9 SDA, 10 VSS, 11 VH2, 12 VL2, 13 VW2, 14 SCL, 15 A3, 16 A1, 17 VH3, 18 VL3, 19 VW3, 20 VCC